# Altium schematic symbol library Tiresias_passive.SchLib: 44 symbols
Pins are listed as number, name and electrical type; pins without a type are passive.

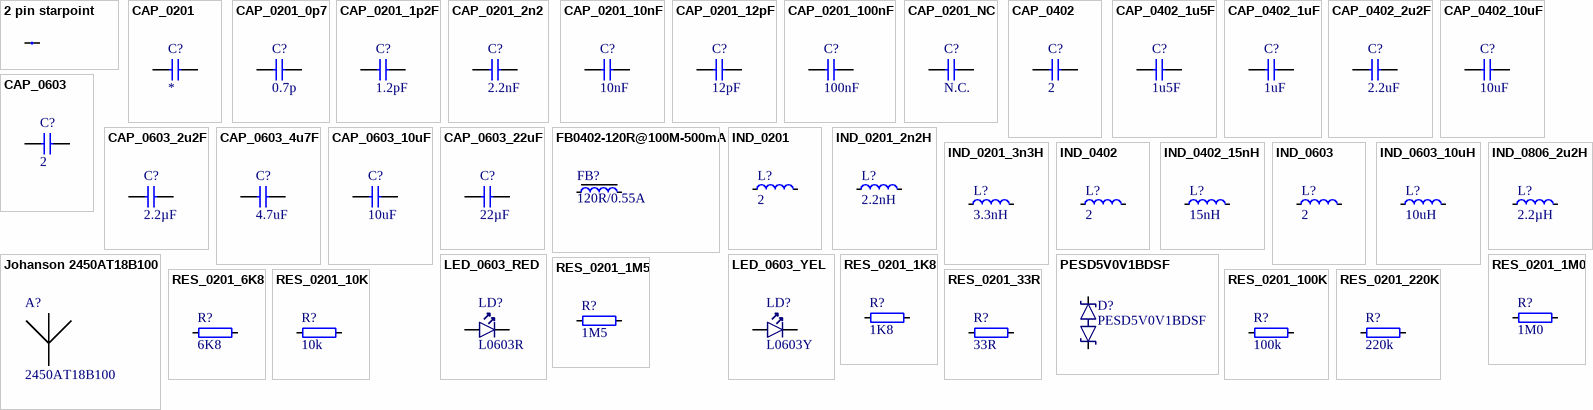
[diagram p0: symbols 2 pin starpoint to RES_0201_220K]

## 2 pin starpoint
designator J?, comment N.A.  (value not drawn)  (net tie, no BOM)
Starpoint; Part Number: 2 pin starpoint; Pad Count: 2; Footprint Doc: N.A.; Value: N.A.; Component Class: Connectors; Author: rsk; PartId: 100500603; Manufacturer: N.A.; Manufacturer Part Number: N.A.; ComponentLink1URL: N.A.; ComponentLink1Description: Datasheet; ComponentLink2URL: N.A.; ComponentLink2Description: Supplier link; HelpURL: N.A.; LatestRevisionDate: 2017-08-31; Published: 2017-08-31; Note: N.A.; Supplier 1: N.A.; Supplier Part Number 1: N.A.; Supplier 2: N.A.; Supplier Part Number 2: N.A.; Artikkelnr Noca: N.A.; Part number IPS: N.A.; Part number Norautron: N.A.
footprint 2 PIN STARPOINT
pins: 1, 2

## CAP_0201
designator C?
Capacitor, NP0, ±2%; Part Number: C0201-12p; Manufacturer: *; Manufacturer Part Number: *; LatestRevisionDate: 2017-11-09; Value: *; Package: *; Pin Count: *; Class: *; JLCpcb link: *; Mouser link: *; DigiKey link: *
footprint CAPC0603X03L_C
pins: 1, 2

## CAP_0201_0p7
designator C?, comment 0.7p
Capacitor, NP0, ±2%; Part Number: C0201-0p7; Class: SMT; Manufacturer: *; Manufacturer Part Number: *; LatestRevisionDate: 2024-03-04; Value: 0.7p; Package: 0201; Pin Count: 2; JLCpcb link: *; Mouser link: *; DigiKey link: *
footprint CAPC0603X03L_C
pins: 1, 2

## CAP_0201_1p2F
designator C?, comment 1.2pF
Capacitor, NP0, ±2%; Part Number: C0201-1p2; Class: SMT; Manufacturer: *; Manufacturer Part Number: *; LatestRevisionDate: 2024/02/20; Value: 1.2pF; Package: 0201; Pin Count: 2; JLCpcb link: *; Mouser link: *; DigiKey link: *
footprint CAPC0603X03L_C
pins: 1, 2

## CAP_0201_2n2
designator C?, comment 2.2nF
Capacitor, NP0, ±2%; Part Number: C0201-2n2; Class: SMT; Manufacturer: *; Manufacturer Part Number: *; LatestRevisionDate: 2024/03/02; Package: 0201; Pin Count: 2; JLCpcb link: *; Mouser link: *; DigiKey link: *; Value: 2.2nF
footprint CAPC0603X03L_C
pins: 1, 2

## CAP_0201_10nF
designator C?, comment 10nF
Capacitor, NP0, ±2%; Part Number: C0201-100n; Class: SMT; Manufacturer: *; Manufacturer Part Number: *; LatestRevisionDate: 2024/02/20; Value: 10nF; Package: 0201; Pin Count: 2; JLCpcb link: *; Mouser link: *; DigiKey link: *
footprint CAPC0603X03L_C
pins: 1, 2

## CAP_0201_12pF
designator C?, comment 12pF
Capacitor, NP0, ±2%; Part Number: C0201-12p; Class: SMT; Manufacturer: *; Manufacturer Part Number: *; LatestRevisionDate: 2017-11-09; Value: 12pF; Package: 0201; Pin Count: 2; JLCpcb link: *; Mouser link: *; DigiKey link: *
footprint CAPC0603X03L_C
pins: 1, 2

## CAP_0201_100nF
designator C?, comment 100nF
Capacitor, NP0, ±2%; Part Number: C0201-100n; Class: SMT; Manufacturer: *; Manufacturer Part Number: *; LatestRevisionDate: 2024/02/20; Value: 100nF; Package: 0201; Pin Count: 2; JLCpcb link: *; Mouser link: *; DigiKey link: *
footprint CAPC0603X03L_C
pins: 1, 2

## CAP_0201_NC
designator C?, comment N.C.
Capacitor, NP0, ±2%; Part Number: C0201-NC; Manufacturer: *; Manufacturer Part Number: *; LatestRevisionDate: 2024-03-04; Value: N.C.; Package: *; Pin Count: 2; Class: *; JLCpcb link: *; Mouser link: *; DigiKey link: *
footprint CAPC0603X03L_C_NC
pins: 1, 2

## CAP_0402
designator C?, comment 2
Capacitor, X5R, ±5%; Part Number: C0402-1µ0; Class: 1.0µF; Manufacturer: *; Manufacturer Part Number: *; LatestRevisionDate: 2016-08-22; Value: 2; Package: Nordic Semiconductor; Pin Count: 2009-05-08; JLCpcb link: 0402; DigiKey link: *
footprint CAPC1005X04L
pins: 1, 2

## CAP_0402_1u5F
designator C?, comment 1u5F
Capacitor, X5R, ±5%; Part Number: C0402-1µ0; Class: SMT; Manufacturer: *; Manufacturer Part Number: *; LatestRevisionDate: 2024/02/20; Value: 1u5F; Package: 0402; Pin Count: 2
footprint CAPC1005X04L
pins: 1, 2

## CAP_0402_1uF
designator C?, comment 1uF
Capacitor, X5R, ±5%; Part Number: C0402-1µ0; Class: SMT; Manufacturer: *; Manufacturer Part Number: *; LatestRevisionDate: 2024/02/20; Value: 1uF; Package: 0402; Pin Count: 2
footprint CAPC1005X04L
pins: 1, 2

## CAP_0402_2u2F
designator C?, comment 2.2uF
Capacitor, X5R, ±5%; Part Number: C0402-2µ2; Class: SMT; Manufacturer: *; Manufacturer Part Number: *; LatestRevisionDate: 2024/04/23; Value: 2.2uF; Package: 0402; Pin Count: 2
footprint CAPC1005X04L
pins: 1, 2

## CAP_0402_10uF
designator C?, comment 10uF
Capacitor, X5R, ±5%; Part Number: C0402-1µ0; Class: SMT; Manufacturer: *; Manufacturer Part Number: *; LatestRevisionDate: 2024/02/20; Value: 10uF; Package: 0402; Pin Count: 2
footprint CAPC1005X04L
pins: 1, 2

## CAP_0603
designator C?, comment 2
Capacitor, X5R, ±10%; Part Number: C0603-4µ7; Class: 4.7µF; Manufacturer: *; Manufacturer Part Number: *; LatestRevisionDate: 2009-11-23; Value: 2; Package: Nordic Semiconductor; Pin Count: 2009-05-08; JLCpcb link: 0603; DigiKey link: *
footprint CAPC1608X06L
pins: 1, 2

## CAP_0603_2u2F
designator C?, comment 2.2µF
Capacitor, Ceramic, X5R, ±10%, 10V; Part Number: C0603-2µ2-10V-X5R; Manufacturer: N.A.; Pad Count: 2; Footprint Doc: 0603; Value: 2.2µF; Component Class: Capacitors; Author: rubr; Manufacturer Part Number: N.A.; ComponentLink1URL: N.A.; ComponentLink1Description: Datasheet; ComponentLink2URL: N.A.; ComponentLink2Description: Supplier link; HelpURL: N.A.; LatestRevisionDate: 2021-07-22; Published: 2021-07-22; Note: 10V; Supplier 1: N.A.; Supplier Part Number 1: N.A.; Supplier 2: N.A.; Supplier Part Number 2: N.A.; Artikkelnr Noca: N.A.; Part number IPS: N.A.; Part number Norautron: N.A.
footprint CAPC1608X06L
pins: 1, 2

## CAP_0603_4u7F
designator C?, comment 4.7uF
Capacitor, X5R, ±10%; Part Number: C0603-4µ7; Class: SMT; Manufacturer: *; Manufacturer Part Number: *; LatestRevisionDate: 2024/02/20; Value: 4.7uF; Package: 0603; Pin Count: 2
footprint CAPC1608X06L
pins: 1, 2

## CAP_0603_10uF
designator C?, comment 10uF
Capacitor, X5R, ±10%; Part Number: C0603-10µ; Class: SMT; Manufacturer: *; Manufacturer Part Number: *; LatestRevisionDate: 2024/02/20; Value: 10uF; Package: 0603; Pin Count: 2
footprint CAPC1608X06L
pins: 1, 2

## CAP_0603_22uF
designator C?, comment 22µF
Capacitor, X5R, ±20%, 6.3V; Part Number: C0603-22µ; Manufacturer: N.A.; Pad Count: 2; Manufacturer Part Number: N.A.; Footprint Doc: 0603; LatestRevisionDate: 2020-09-23; Published: 2020-09-23; Value: 22µF; Note: 6.3V; Artikkelnr Noca: N.A.; Part number IPS: N.A.; ComponentLink1URL: N.A.; ComponentLink1Description: Datasheet; ComponentLink2URL: N.A.; ComponentLink2Description: Supplier link; HelpURL: N.A.; Supplier 1: N.A.; Supplier Part Number 1: N.A.; Supplier 2: N.A.; Supplier Part Number 2: N.A.; Component Class: Capacitors; PartId: 100200276; Author: rsk; Part number Norautron: N.A.
footprint CAPC1608X06L
pins: 1, 2

## FB0402-120R@100M-500mA
designator FB?, comment 120R/0.55A
Ferrite Bead, 120 Ohm @ 100MHz, 500mA, 250 mOhm Max; Part Number: FB0402-120R@100M-500mA; Manufacturer: Murata; Manufacturer Part Number: BLM15AG121SN1D; Part number IPS: 00000009954; Part number Norautron: N.A.; Note: Chip EMIFIL Inductor Type Chip Ferrite Bead; Artikkelnr Noca: 33029317; Pad Count: 2; Footprint Doc: 0402; LatestRevisionDate: 2014-01-10; Published: 2011-11-14; Value: 120R/0.55A; ComponentLink1Description: Datasheet; ComponentLink2Description: Supplier link; ComponentLink1URL: N.A.; ComponentLink2URL: N.A.; HelpURL: http://search.murata.co.jp/Ceramy/image/img/PDF/ENG/L0110S0100BLM15A_SN.pdf; Supplier 1: Digi-Key; Supplier Part Number 1: 490-1005-1-ND; Supplier 2: Farnell; Supplier Part Number 2: 151-5760; Component Class: Inductors; PartId: 100300099; Author: rsk
footprint INDC1005X04L
pins: 1, 2

## IND_0201
designator L?, comment 2
High frequency chip inductor ±5%; Part Number: L0201-2n2; Class: 2.2nH; Manufacturer: *; Manufacturer Part Number: *; LatestRevisionDate: 2013-04-10; Value: 2; Package: Nordic Semiconductor; Pin Count: 2013-04-10; JLCpcb link: 0201; DigiKey link: *
footprint INDC0603X03L_C
pins: 1, 2

## IND_0201_2n2H
designator L?, comment 2.2nH
High frequency chip inductor ±5%; Part Number: L0201-2n2; Class: SMT; Manufacturer: *; Manufacturer Part Number: *; LatestRevisionDate: 2024/02/20; Value: 2.2nH; Package: 0201; Pin Count: 2
footprint INDC0603X03L_C
pins: 1, 2

## IND_0201_3n3H
designator L?, comment 3.3nH
High frequency chip inductor ±5%; Part Number: L0201-3n3; Class: SMT; Manufacturer: *; Manufacturer Part Number: *; LatestRevisionDate: 2024/02/20; Value: 3.3nH; Package: 0201; Pin Count: 2
footprint INDC0603X03L_C
pins: 1, 2

## IND_0402
designator L?, comment 2
High frequency chip inductor ±10%; Part Number: L0402-15n; Class: 15nH; LatestRevisionDate: 2012-09-19; Value: 2; Package: Nordic Semiconductor; Pin Count: 2010-07-12; JLCpcb link: 0402; DigiKey link: *
footprint INDC1005X04L
pins: 1, 2

## IND_0402_15nH
designator L?, comment 15nH
High frequency chip inductor ±10%; Part Number: L0402-15n; Class: SMT; LatestRevisionDate: 2024/02/20; Value: 15nH; Package: 0402; Pin Count: 2
footprint INDC1005X04L
pins: 1, 2

## IND_0603
designator L?, comment 2
Chip inductor, IDC,min = 50 mA, ±20%; Part Number: L0603-10µ; Class: 10µH; LatestRevisionDate: 2012-09-19; Value: 2; Package: Nordic Semiconductor; Pin Count: 2010-02-24; JLCpcb link: 0603; DigiKey link: *
footprint INDC1608X06L
pins: 1, 2

## IND_0603_10uH
designator L?, comment 10uH
Chip inductor, IDC,min = 50 mA, ±20%; Part Number: L0603-10µ; Class: SMT; LatestRevisionDate: 2024/02/20; Value: 10uH; Package: 0603; Pin Count: 2
footprint INDC1608X06L
pins: 1, 2

## IND_0806_2u2H
designator L?, comment 2.2µH
FIXED IND 2.2UH 2.5A 87MOHM SMD; Part Number: CIGT201610EH2R2MNE; Manufacturer: Samsung Electro-Mechanics; Pad Count: 2; Note: 2.2µH Unshielded Thin Film Inductor 2.5A 87mOhm Max 0806 (2016 Metric); Artikkelnr Noca: N.A.; Footprint Doc: 0806; Value: 2.2µH; Component Class: Inductors; Author: rsk; PartId: 100300400; Manufacturer Part Number: CIGT201610EH2R2MNE; ComponentLink1URL: https://media.digikey.com/pdf/Data%20Sheets/Samsung%20PDFs/CIGT201610EH2R2MNE_Spec.pdf; ComponentLink1Description: Datasheet; ComponentLink2URL: https://www.digikey.com/en/products/detail/samsung-electro-mechanics/CIGT201610EH2R2MNE/7041223?s=N4IgTCBcDaIMIEkDiAVMAGAjANk%2BgogBJgBKYAsgHL4gC6AvkA; ComponentLink2Description: Supplier link; HelpURL: http://product.samsungsem.com/pi/CIGT201610EH2R2MN.do; LatestRevisionDate: 2021-02-03; Published: 2021-02-03; Supplier 1: Digi-Key; Supplier Part Number 1: 1276-6901-1-ND; Supplier 2: Mouser; Supplier Part Number 2: 187-CIGT201610EH2R2M; Part number IPS: N.A.; Part number Norautron: N.A.
footprint INDC2016X10N
pins: 1, 2

## Johanson 2450AT18B100
designator A?, comment 2450AT18B100
2.45 GHz chip antenna; Part Number: Johanson 2450AT18B100; Manufacturer: Johanson Technology; Part number IPS: 00000007781; Note: N.A.; Pad Count: 2; Manufacturer Part Number: 2450AT18B100; ComponentLink1URL: N.A.; ComponentLink1Description: Datasheet; ComponentLink2URL: N.A.; ComponentLink2Description: Supplier link; HelpURL: http://www.johansontechnology.com/datasheets/antennas/2450AT18B100.pdf; Footprint Doc: 2450AT18B100; LatestRevisionDate: 2013-09-13; Published: 2013-09-13; Value: 2450AT18B100; Supplier 1: Digi-Key; Supplier Part Number 1: 712-1006-1-ND; Supplier 2: N.A.; Supplier Part Number 2: N.A.; Artikkelnr Noca: N.A.; Component Class: Antennas; PartId: 100700001; Author: rsk; Part number Norautron: N.A.
footprint 2450AT18B100
pins: 1

## LED_0603_RED
designator LD?, comment L0603R
LED, SMD, 0603, RED; Part Number: OVS-0608 RED; Manufacturer: Multicomp; Pad Count: 2; Note: 100 mcd @ 20 mA, Super bright; Artikkelnr Noca: N.A.; Footprint Doc: 0603; Value: L0603R; Component Class: Optoelectronics; Author: rsk; PartId: 101400024; Manufacturer Part Number: OVS-0608; ComponentLink1URL: N.A.; ComponentLink1Description: Datasheet; ComponentLink2URL: N.A.; ComponentLink2Description: Supplier link; HelpURL: http://www.farnell.com/datasheets/1673654.pdf; LatestRevisionDate: 2011-10-28; Published: 2011-10-28; Supplier 1: Farnell; Supplier Part Number 1: 171-6774; Supplier 2: N.A.; Supplier Part Number 2: N.A.; Part number IPS: N.A.; Part number Norautron: N.A.
footprint LED_0603_R
pins: 1 C, 2 A

## LED_0603_YEL
designator LD?, comment L0603Y
LED, Yellow, 0603, 590nm, Vf=2.0V, 120mcd, - 40 to +85°C; Part Number: 150060YS75000; Manufacturer: Wurth Elektronik; Note: N.A.; Pad Count: 2; Manufacturer Part Number: 150060YS75000; ComponentLink1URL: https://katalog.we-online.de/led/datasheet/150060YS75000.pdf; ComponentLink1Description: Datasheet; ComponentLink2URL: https://www.digikey.com/en/products/detail/w%C3%BCrth-elektronik/150060YS75000/4489909; ComponentLink2Description: Supplier link; HelpURL: N.A.; Footprint Doc: 0603; LatestRevisionDate: 2020-11-04; Published: 2020-11-04; Value: L0603Y; Supplier 1: Digi-Key; Supplier Part Number 1: 732-4981-1-ND; Supplier 2: N.A.; Supplier Part Number 2: N.A.; Artikkelnr Noca: N.A.; Part number IPS: N.A.; Component Class: Optoelectronics; PartId: 101400136; Author: rsk; Part number Norautron: N.A.
footprint LED_0603_Y
pins: 1 C, 2 A

## PESD5V0V1BDSF
designator D?
Very low capacitance bidirectional ESD protection diode; Manufacturer: Nexperia; Note: N.A.; Pad Count: 2; Part Number: PESD5V0V1BDSF; Manufacturer Part Number: PESD5V0V1BDSF; ComponentLink1URL: https://assets.nexperia.com/documents/data-sheet/PESD5V0V1BDSF.pdf; ComponentLink1Description: Datasheet; ComponentLink2URL: https://www.digikey.com/product-detail/en/nexperia-usa-inc/PESD5V0V1BDSF-315/1727-1320-1-ND/4386332; ComponentLink2Description: Supplier link; HelpURL: https://www.nexperia.com/products/esd-protection-tvs-filtering-and-signal-conditioning/esd-protection/general-purpose-esd-protection-devices/PESD5V0V1BDSF.html; Footprint Doc: DSN0603-2; LatestRevisionDate: 2020-08-23; Published: 2020-08-23; Value: PESD5V0V1BDSF; Supplier 1: Digi-Key; Supplier Part Number 1: 1727-1320-1-ND; Supplier 2: N.A.; Supplier Part Number 2: N.A.; Artikkelnr Noca: N.A.; Part number IPS: N.A.; Component Class: Semiconductors; PartId: 101300179; Author: rsk; Part number Norautron: N.A.
footprint DFN40P60X30-2N
pins: 1 (power), 2 (power)

## RES_0201_1K8
designator R?, comment 1K8
Resistor, ±1%, 0.05W; Part Number: R0201-100k; Manufacturer: N.A.; Class: SMT; Latest Revision Date: 2024-04-23; ComponentLink1URL: N.A.; ComponentLink1Description: Datasheet; ComponentLink2URL: N.A.; ComponentLink2Description: Supplier link; Value: 1K8; Package: 0201; Pin Count: 2; JLCpcb link: Chip Res 1%; Mouser link: N.A.; DigiKey link: 00000001419; Author: rsk
footprint RESC0603X03L_C
pins: 1, 2

## RES_0201_1M0
designator R?, comment 1M0
Resistor, ±1%, 0.05W; Part Number: R0201-100k; Manufacturer: N.A.; Class: SMT; Latest Revision Date: 2024-04-23; ComponentLink1URL: N.A.; ComponentLink1Description: Datasheet; ComponentLink2URL: N.A.; ComponentLink2Description: Supplier link; Value: 1M0; Package: 0201; Pin Count: 2; JLCpcb link: Chip Res 1%; Mouser link: N.A.; DigiKey link: 00000001419; Author: rsk
footprint RESC0603X03L_C
pins: 1, 2

## RES_0201_1M5
designator R?, comment 1M5
Resistor, ±1%, 0.05W; Part Number: R0201-100k; Manufacturer: N.A.; Class: SMT; Latest Revision Date: 2024-04-23; ComponentLink1URL: N.A.; ComponentLink1Description: Datasheet; ComponentLink2URL: N.A.; ComponentLink2Description: Supplier link; Value: 1M5; Package: 0201; Pin Count: 2; JLCpcb link: Chip Res 1%; Mouser link: N.A.; DigiKey link: 00000001419; Author: rsk
footprint RESC0603X03L_C
pins: 1, 2

## RES_0201_6K8
designator R?, comment 6K8
Resistor, ±1%, 0.05W; Part Number: R0201-100k; Manufacturer: N.A.; Class: SMT; Latest Revision Date: 2024-04-23; ComponentLink1URL: N.A.; ComponentLink1Description: Datasheet; ComponentLink2URL: N.A.; ComponentLink2Description: Supplier link; Value: 6K8; Package: 0201; Pin Count: 2; JLCpcb link: Chip Res 1%; Mouser link: N.A.; DigiKey link: 00000001419; Author: rsk
footprint RESC0603X03L_C
pins: 1, 2

## RES_0201_10K
designator R?, comment 10k
Resistor, ±1%, 0.05W; Part Number: R0201-100k; Manufacturer: N.A.; Class: SMT; Latest Revision Date: 2024-04-23; ComponentLink1URL: N.A.; ComponentLink1Description: Datasheet; ComponentLink2URL: N.A.; ComponentLink2Description: Supplier link; Value: 10k; Package: 0201; Pin Count: 2; JLCpcb link: Chip Res 1%; Mouser link: N.A.; DigiKey link: 00000001419; Author: rsk
footprint RESC0603X03L_C
pins: 1, 2

## RES_0201_33R
designator R?, comment 33R
Resistor, ±1%, 0.05W; Part Number: R0201-220; Manufacturer: N.A.; Part number IPS: 00000000863; Pad Count: 2; Note: Chip Res 1%; Footprint Doc: 0201; Value: 33R; Component Class: Resistors; Author: rsk; PartId: 100100032; Manufacturer Part Number: N.A.; ComponentLink1URL: N.A.; ComponentLink1Description: Datasheet; ComponentLink2URL: N.A.; ComponentLink2Description: Supplier link; HelpURL: N.A.; LatestRevisionDate: 2014-11-13; Published: 2014-11-13; Supplier 1: N.A.; Supplier Part Number 1: N.A.; Supplier 2: N.A.; Supplier Part Number 2: N.A.; Artikkelnr Noca: N.A.; Part number Norautron: N.A.
footprint RESC0603X03L_C
pins: 1, 2

## RES_0201_100K
designator R?, comment 100k
Resistor, ±1%, 0.05W; Part Number: R0201-100k; Manufacturer: N.A.; Class: SMT; Latest Revision Date: 2024-04-23; ComponentLink1URL: N.A.; ComponentLink1Description: Datasheet; ComponentLink2URL: N.A.; ComponentLink2Description: Supplier link; Value: 100k; Package: 0201; Pin Count: 2; JLCpcb link: Chip Res 1%; Mouser link: N.A.; DigiKey link: 00000001419; Author: rsk
footprint RESC0603X03L_C
pins: 1, 2

## RES_0201_220K
designator R?, comment 220k
Resistor, ±1%, 0.05W; Part Number: R0201-100k; Manufacturer: N.A.; Class: SMT; Latest Revision Date: 2024-04-23; ComponentLink1URL: N.A.; ComponentLink1Description: Datasheet; ComponentLink2URL: N.A.; ComponentLink2Description: Supplier link; Value: 220k; Package: 0201; Pin Count: 2; JLCpcb link: Chip Res 1%; Mouser link: N.A.; DigiKey link: 00000001419; Author: rsk
footprint RESC0603X03L_C
pins: 1, 2

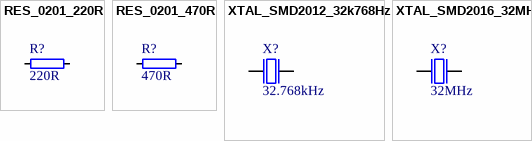
[diagram p1: symbols RES_0201_220R to XTAL_SMD2016_32MHz]

## RES_0201_220R
designator R?, comment 220R
Resistor, ±1%, 0.05W; Part Number: R0201-220; Manufacturer: N.A.; Part number IPS: 00000000863; Pad Count: 2; Note: Chip Res 1%; Footprint Doc: 0201; Value: 220R; Component Class: Resistors; Author: rsk; PartId: 100100032; Manufacturer Part Number: N.A.; ComponentLink1URL: N.A.; ComponentLink1Description: Datasheet; ComponentLink2URL: N.A.; ComponentLink2Description: Supplier link; HelpURL: N.A.; LatestRevisionDate: 2014-11-13; Published: 2014-11-13; Supplier 1: N.A.; Supplier Part Number 1: N.A.; Supplier 2: N.A.; Supplier Part Number 2: N.A.; Artikkelnr Noca: N.A.; Part number Norautron: N.A.
footprint RESC0603X03L_C
pins: 1, 2

## RES_0201_470R
designator R?, comment 470R
Resistor, ±1%, 0.05W; Part Number: R0201-470; Manufacturer: N.A.; Note: Chip Res 1%; Pad Count: 2; Manufacturer Part Number: N.A.; ComponentLink1URL: N.A.; ComponentLink1Description: Datasheet; ComponentLink2URL: N.A.; ComponentLink2Description: Supplier link; HelpURL: N.A.; Footprint Doc: 0201; LatestRevisionDate: 2014-11-13; Published: 2014-11-13; Value: 470R; Artikkelnr Noca: N.A.; Part number IPS: N.A.; Supplier 1: N.A.; Supplier Part Number 1: N.A.; Supplier 2: N.A.; Supplier Part Number 2: N.A.; Component Class: Resistors; PartId: 100100037; Author: rsk; Part number Norautron: N.A.
footprint RESC0603X03L_C
pins: 1, 2

## XTAL_SMD2012_32k768Hz
designator X?, comment 32.768kHz
XTAL SMD 2012, 32.768kHz, Cl=9pF, Total Tol: ±50ppm; Part Number: XTAL_SMD2012_32.768kHz_9pF_General; Class: SMT; Manufacturer: *; Manufacturer Part Number: *; LatestRevisionDate: 2024/02/20; Value: 32.768kHz; Package: 2012; Pin Count: 4
footprint XTAL_2012
pins: 1 inp, 2 out

## XTAL_SMD2016_32MHz
designator X?, comment 32MHz
XTAL SMD 2016, 32MHz, Cl=8pF, Total Tol: ±40ppm; Part Number: XTAL_SMD2016_32MHz_8pF_General; Class: SMT; Manufacturer: *; Manufacturer Part Number: *; LatestRevisionDate: 2024/02/20; Value: 32MHz; Package: 2016; Pin Count: 4
footprint BT-XTAL_2016
pins: 1 inp, 2 GND hidden to GND, 3 out, 4 GND hidden to GND